# Altium schematic symbol library SCH - POWER - LINEAR VREG - TI TPS7A7100RGW.SchLib: 1 symbol
Pins are listed as number, name and electrical type; pins without a type are passive.

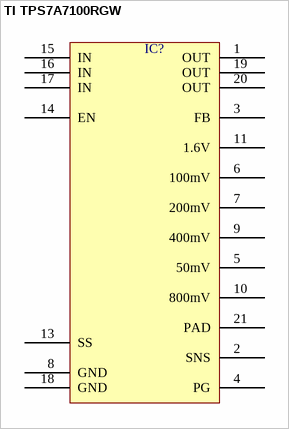
[diagram p0: symbol TI TPS7A7100RGW]

## TI TPS7A7100RGW
designator IC?  (value not drawn)
pins: 1 OUT, 2 SNS, 3 FB, 4 PG, 5 50mV, 6 100mV, 7 200mV, 8 GND, 9 400mV, 10 800mV, 11 1.6V, 13 SS, 14 EN, 15 IN, 16 IN, 17 IN, 18 GND, 19 OUT, 20 OUT, 21 PAD